# Altium footprint library RLC.PcbLib: 33 footprints (part 1 of 3)
Each footprint in its own frame and in the unit in brackets; x right, y up, seen from the top. Pads: shape width x height; smd on the part's side, far side on the other; paste and mask are expansions set on the pad; w line width, h text height; cw(c..) or ccw(c..) is an arc to the next point about the centre after c.
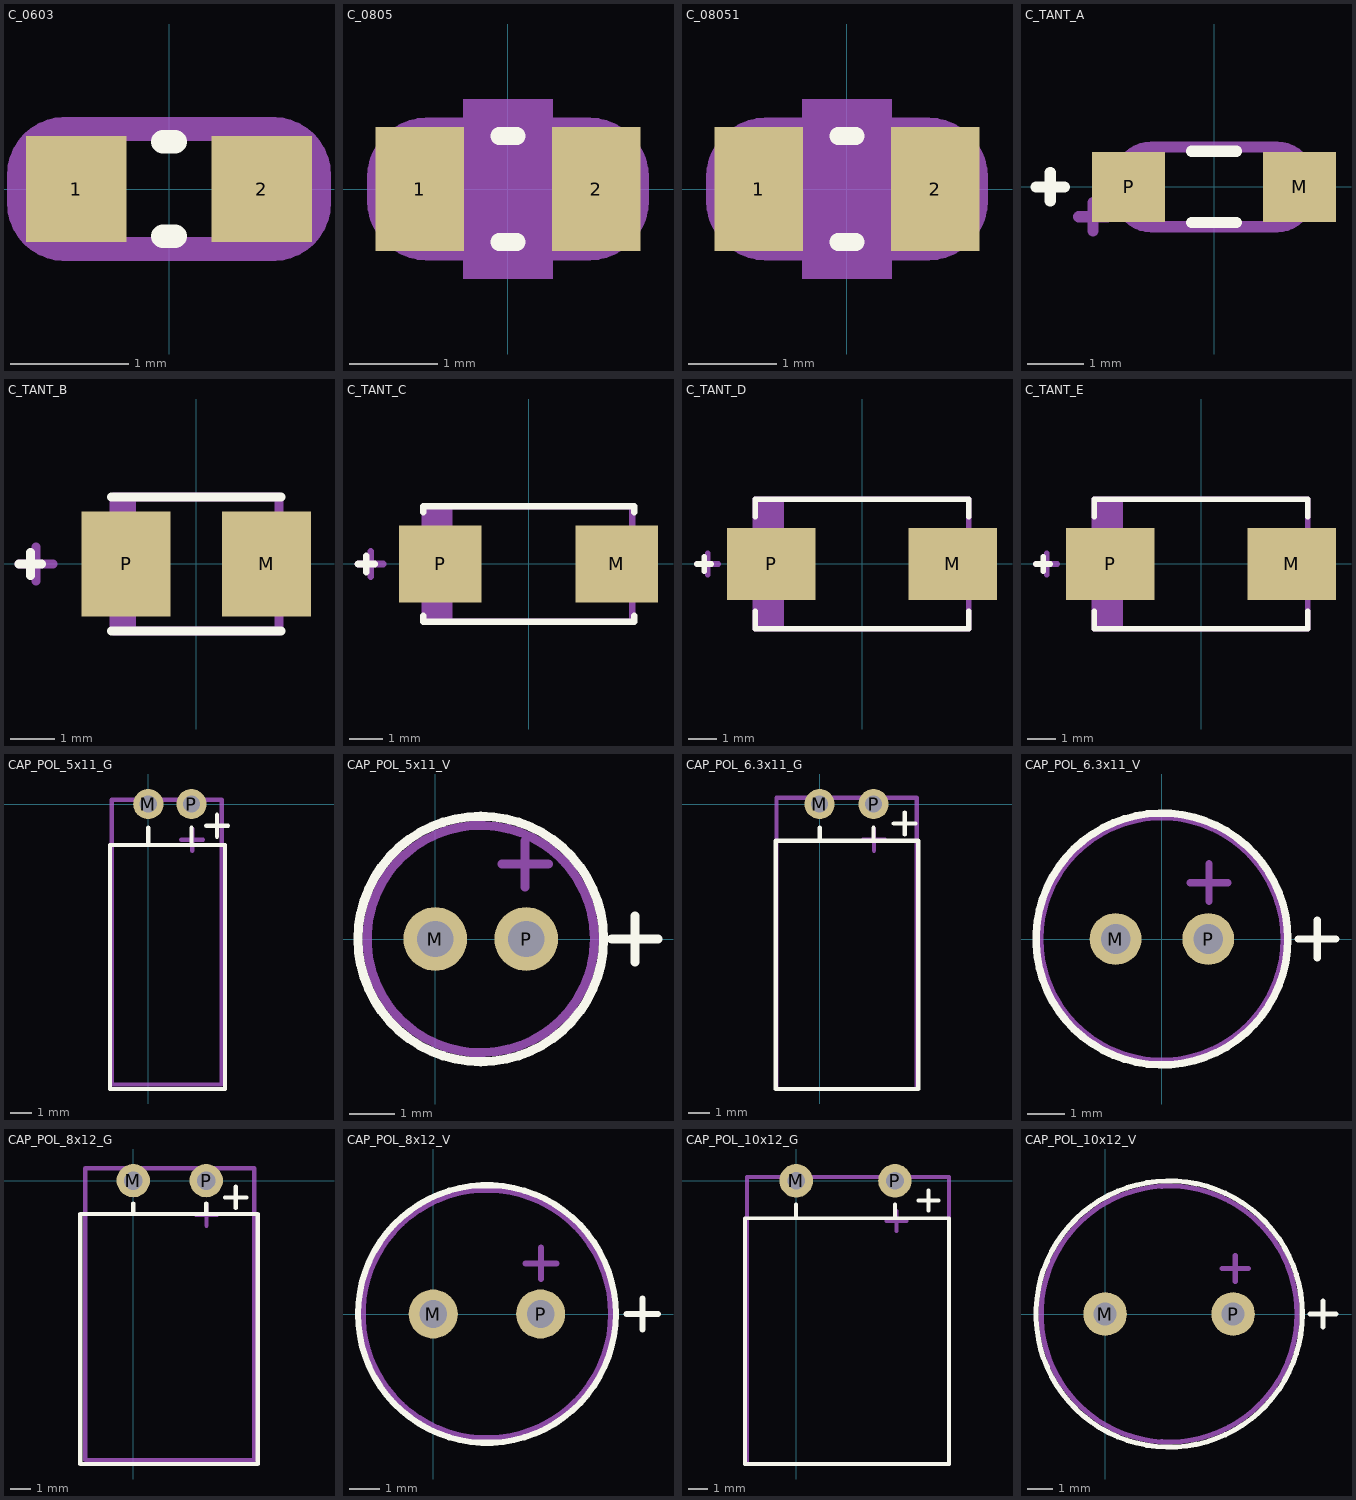
[diagram p0: the footprints below, top view; thin cyan lines are the x and y axes]

## C_0603 [mm] "Chip Capacitor, 2-Leads, Body 1,6x0,8mm, IPC Medium Density"
height 0.95
pads (2):
  rect 0.85x0.9 smd: 1(-0.785,0) 2(0.785,0)
Top Overlay:
  lines w0.2: -0.051,-0.4 0.051,-0.4 ; -0.051,0.4 0.051,0.4
Mechanical 13:
  lines w0.2: -1.27,-0.127 ccw(c-0.889,-0.127) -0.889,-0.508 0.889,-0.508 ccw(c0.889,-0.127) 1.27,-0.127 1.27,0.127 ccw(c0.889,0.127) 0.889,0.508 -0.889,0.508 ccw(c-0.889,0.127) -1.27,0.127 -1.27,-0.127
  text ".Designator" at -1.016,-0.305 h1
3D body: height 0.85, standoff 0, extent -0.8,-0.4 0.8,0.4

## C_0805 [mm] "Chip Capacitor, 2-Leads, Body 2,0x1,3mm, IPC Medium Density"
height 1.6
pads (2):
  rect 1x1.4 smd: 1(-1,0) 2(1,0)
Top Overlay:
  lines w0.2: -0.1,-0.6 0.1,-0.6 ; -0.1,0.6 0.1,0.6
Mechanical 1:
  pour cut-out: -0.508,1.016 0.508,1.016 0.508,-1.016 -0.508,-1.016
Mechanical 13:
  lines w0.2: -1.499,-0.128 ccw(c-0.916,-0.128) -0.916,-0.711 0.916,-0.711 ccw(c0.916,-0.128) 1.499,-0.128 1.499,0.128 ccw(c0.916,0.128) 0.916,0.711 -0.916,0.711 ccw(c-0.916,0.128) -1.499,0.128 -1.499,-0.128
  text ".Designator" at -0.965,-0.457 h1.5
3D body: height 1.1, standoff 0, extent -1,-0.635 1,0.615

## C_08051 [mm] "Chip Capacitor, 2-Leads, Body 2,0x1,3mm, IPC Medium Density"
height 1.6
pads (2):
  rect 1x1.4 smd: 1(-1,0) 2(1,0)
Top Overlay:
  lines w0.2: -0.1,-0.6 0.1,-0.6 ; -0.1,0.6 0.1,0.6
Mechanical 1:
  pour cut-out: -0.508,1.016 0.508,1.016 0.508,-1.016 -0.508,-1.016
Mechanical 13:
  lines w0.2: -1.499,-0.128 ccw(c-0.916,-0.128) -0.916,-0.711 0.916,-0.711 ccw(c0.916,-0.128) 1.499,-0.128 1.499,0.128 ccw(c0.916,0.128) 0.916,0.711 -0.916,0.711 ccw(c-0.916,0.128) -1.499,0.128 -1.499,-0.128
  text ".Designator" at -0.965,-0.457 h1.5
3D body: height 1.1, standoff 0, extent -1,-0.635 1,0.615

## C_TANT_A [mm] "Molded Capacitor, 2-Leads, Body 3,2x1,6mm, IPC Medium Density"
height 1.6
pads (2):
  rect 1.3x1.25 smd: M(1.525,0) P(-1.525,0)
Top Overlay:
  lines w0.2: -3.175,0 -2.667,0 ; -2.921,-0.254 -2.921,0.254 ; -0.4,-0.635 0.4,-0.635 ; -0.4,0.635 0.4,0.635
Mechanical 13:
  lines w0.2: -2.413,-0.533 -1.905,-0.533 ; -2.159,-0.787 -2.159,-0.279 ; -1.702,-0.128 -1.702,0.128 ; -1.7,-0.128 ccw(c-1.118,-0.128) -1.118,-0.711 1.118,-0.711 ccw(c1.118,-0.128) 1.7,-0.128 ; -1.7,0.128 cw(c-1.118,0.128) -1.118,0.711 1.118,0.711 cw(c1.118,0.128) 1.7,0.128 ; 1.702,-0.128 1.702,0.128
  text ".Designator" at -1.194,-0.432 h1.5
3D body: height 1.61, standoff 0, extent -1.603,-0.8 1.587,0.8

## C_TANT_B [mm] "Molded Capacitor, 2-Leads, Body 3,5x2,8mm, IPC Low Density"
height 2.1
pads (2):
  rect 2x2.35 smd: M(1.575,0) P(-1.575,0)
Top Overlay:
  lines w0.2: -3.975,0 -3.467,0 ; -3.721,-0.254 -3.721,0.254 ; -1.9,-1.5 1.9,-1.5 ; -1.9,1.5 1.9,1.5
Mechanical 13:
  rectangle: -1.85,-1.5 -1.352,1.5
  lines w0.2: -3.975,0 -3.213,0 ; -3.594,-0.381 -3.594,0.381 ; -1.85,-1.5 -1.85,1.5 1.85,1.5 1.85,-1.5 -1.85,-1.5
  text ".Designator" at -1.9,2.1 h2.5
3D body: height 2.14, standoff 0.04, extent -1.82,-1.474 1.871,1.346

## C_TANT_C [mm] "Molded Capacitor, 2-Leads, Body 6,0x3,2mm, IPC Low Density"
height 2.1
pads (2):
  rect 2.5x2.35 smd: M(2.675,0) P(-2.675,0)
Top Overlay:
  lines w0.2: -5.175,0 -4.667,0 ; -4.921,-0.254 -4.921,0.254 ; -3.2,-1.575 -3.2,-1.75 3.2,-1.75 3.2,-1.575 ; -3.2,1.575 -3.2,1.75 3.2,1.75 3.2,1.575
Mechanical 13:
  rectangle: -3.15,-1.75 -2.303,1.75
  lines w0.2: -5.175,0 -4.413,0 ; -4.794,-0.381 -4.794,0.381 ; -3.15,-1.75 3.15,-1.75 3.15,1.75 -3.15,1.75 -3.15,-1.75
  text ".Designator" at -2.5,2.1 h2.5
3D body: height 2.72, standoff 0.03, extent -3.067,-1.6 3.118,1.605

## C_TANT_D [mm] "Molded Capacitor, 2-Leads, Body 7,3x4,3mm, IPC Low Density"
height 2.1
pads (2):
  rect 3.15x2.55 smd: M(3.225,0) P(-3.225,0)
Top Overlay:
  lines w0.2: -5.875,0 -5.367,0 ; -5.621,-0.254 -5.621,0.254 ; -3.8,-1.675 -3.8,-2.3 3.8,-2.3 3.8,-1.675 ; -3.8,1.675 -3.8,2.3 3.8,2.3 3.8,1.675
Mechanical 13:
  rectangle: -3.8,-2.3 -2.778,2.3
  lines w0.2: -5.875,0 -5.113,0 ; -5.494,-0.381 -5.494,0.381 ; -3.8,-2.3 -3.8,2.3 3.8,2.3 3.8,-2.3 -3.8,-2.3
  text ".Designator" at 0.9,-1.9 h2.5
3D body: height 2.8, standoff 0, extent -3.65,-2.1 3.65,2.2

## C_TANT_E [mm] "Molded Capacitor, 2-Leads, Body 7,3x4,3mm, IPC Low Density"
height 2.1
pads (2):
  rect 3.15x2.55 smd: M(3.225,0) P(-3.225,0)
Top Overlay:
  lines w0.2: -5.875,0 -5.367,0 ; -5.621,-0.254 -5.621,0.254 ; -3.8,-1.675 -3.8,-2.3 3.8,-2.3 3.8,-1.675 ; -3.8,1.675 -3.8,2.3 3.8,2.3 3.8,1.675
Mechanical 13:
  rectangle: -3.8,-2.3 -2.778,2.3
  lines w0.2: -5.875,0 -5.113,0 ; -5.494,-0.381 -5.494,0.381 ; -3.8,-2.3 -3.8,2.3 3.8,2.3 3.8,-2.3 -3.8,-2.3
  text ".Designator" at 1,-1.7 h2.5
3D body: height 4.1, standoff 0, extent -3.65,-2.1 3.65,2.2

## CAP_POL_5x11_G [mm]
pads (2):
  round 1.4 hole 0.8: M(0,0) P(2,0)
Top Overlay:
  lines w0.2: 0,-1.9 0,-1.1 ; 2,-1.9 2,-1.1 ; 2.681,-1 3.697,-1 ; 3.189,-1.508 3.189,-0.492 ; -1.778,-13.208 -1.778,-1.9 3.556,-1.9 3.556,-13.208 -1.778,-13.208
Mechanical 13:
  lines w0.2: 1.524,-1.651 2.54,-1.651 ; 2.032,-2.159 2.032,-1.143 ; -1.7,-13 -1.7,0.2 3.4,0.2 3.4,-13 -1.7,-13
  text ".Designator" at -0.889,-3.302 h2.5
3D body: height 5.53, standoff -3, extent -1.636,-13.067 3.414,0.254

## CAP_POL_5x11_V [mm]
pads (2):
  round 1.4 hole 0.8: M(0,0) P(2,0)
Top Overlay:
  circle w0.2: c1,0 r2.7
  lines w0.2: 3.881,0 4.897,0 ; 4.389,-0.508 4.389,0.508
Mechanical 13:
  circle w0.2: c1,0 r2.5
  lines w0.2: 1.468,1.651 2.484,1.651 ; 1.976,1.143 1.976,2.159
  text ".Designator" at 0.127,-2.286 h2.5
3D body: height 11.53, standoff -3.27, extent -1.509,-2.511 3.541,2.54

## CAP_POL_6.3x11_G [mm]
pads (2):
  round 1.4 hole 0.8: M(0,0) P(2.5,0)
Top Overlay:
  lines w0.2: 0,-1.7 0,-1.1 ; 2.5,-1.7 2.5,-1.1 ; 3.433,-0.9 4.449,-0.9 ; 3.941,-1.408 3.941,-0.392 ; -2.032,-13.208 4.572,-13.208 4.572,-1.7 -2.032,-1.7 -2.032,-13.208
Mechanical 13:
  lines w0.2: 2.012,-1.651 3.028,-1.651 ; 2.52,-2.159 2.52,-1.143 ; -2,-13.208 4.5,-13.208 4.5,0.3 -2,0.3 -2,-13.208
  text ".Designator" at -1.27,-4.699 h2.5
3D body: height 7.18, standoff -2, extent -1.905,-13.067 4.445,0.254

## CAP_POL_6.3x11_V [mm]
pads (2):
  round 1.4 hole 0.8: M(-1.25,0) P(1.25,0)
Top Overlay:
  circle w0.2: c0,0 r3.4
  lines w0.2: 3.683,0 4.699,0 ; 4.191,-0.508 4.191,0.508
Mechanical 13:
  circle w0.2: c0,0 r3.3
  lines w0.2: 0.762,1.524 1.778,1.524 ; 1.27,1.016 1.27,2.032
  text ".Designator" at -0.635,-2.159 h1.52
3D body: height 11.53, standoff -3.01, extent -3.176,-3.176 3.175,3.175

## CAP_POL_8x12_G [mm]
pads (2):
  round 1.6 hole 0.9: M(0,0) P(3.5,0)
Top Overlay:
  lines w0.2: 0,-1.6 0,-1.1 ; 3.5,-1.6 3.5,-1.1 ; 4.408,-0.8 5.424,-0.8 ; 4.916,-1.308 4.916,-0.292 ; -2.54,-13.589 5.969,-13.589 5.969,-1.6 -2.54,-1.6 -2.54,-13.589
Mechanical 13:
  lines w0.2: 3.006,-1.651 4.022,-1.651 ; 3.514,-2.159 3.514,-1.143 ; -2.3,-13.4 5.8,-13.4 5.8,0.6 -2.3,0.6 -2.3,-13.4
  text ".Designator" at -0.254,-3.937 h2.5
3D body: height 8.33, standoff -1.7, extent -2.286,-13.387 5.765,0.433

## CAP_POL_8x12_V [mm]
pads (2):
  round 1.6 hole 0.9: M(0,0) P(3.5,0)
Top Overlay:
  circle w0.2: c1.75,0 r4.2
  lines w0.2: 6.308,0 7.324,0 ; 6.816,-0.508 6.816,0.508
Mechanical 13:
  circle w0.2: c1.75,0 r4.05
  lines w0.2: 3.006,1.651 4.022,1.651 ; 3.514,1.143 3.514,2.159
  text ".Designator" at 0.254,-2.794 h2.5
3D body: height 12.03, standoff -3.48, extent -2.275,-4.064 5.775,3.987

## CAP_POL_10x12_G [mm]
pads (2):
  round 1.7 hole 0.9: M(0,0) P(5,0)
Top Overlay:
  lines w0.2: 0,-1.9 0,-1.2 ; 5,-1.9 5,-1.2 ; 6.201,-1 7.217,-1 ; 6.709,-1.508 6.709,-0.492 ; -2.6,-14.351 7.747,-14.351 7.747,-1.9 -2.6,-1.9 -2.6,-14.351
Mechanical 13:
  lines w0.2: 4.572,-2.032 5.588,-2.032 ; 5.08,-2.54 5.08,-1.524 ; -2.5,-14.351 7.747,-14.351 7.747,0.2 -2.5,0.2 -2.5,-14.351
  text ".Designator" at 0.508,-5.461 h2.5
3D body: height 10.53, standoff -3.18, extent -2.431,-14.229 7.62,0.259

## CAP_POL_10x12_V [mm]
pads (2):
  round 1.7 hole 0.9: M(0,0) P(5,0)
Top Overlay:
  circle w0.2: c2.5,0 r5.2
  lines w0.2: 8.001,0 9.017,0 ; 8.509,-0.508 8.509,0.508
Mechanical 13:
  circle w0.2: c2.5,0 r5
  lines w0.2: 4.572,1.778 5.588,1.778 ; 5.08,1.27 5.08,2.286
  text ".Designator" at 0.381,-3.048 h2.5
3D body: height 13.03, standoff -3.48, extent -2.485,-5.098 7.565,4.953